# Altium integrated library TI Data Converters Digital to Analog Converter.IntLib: 1533 symbols (part 36 of 99)
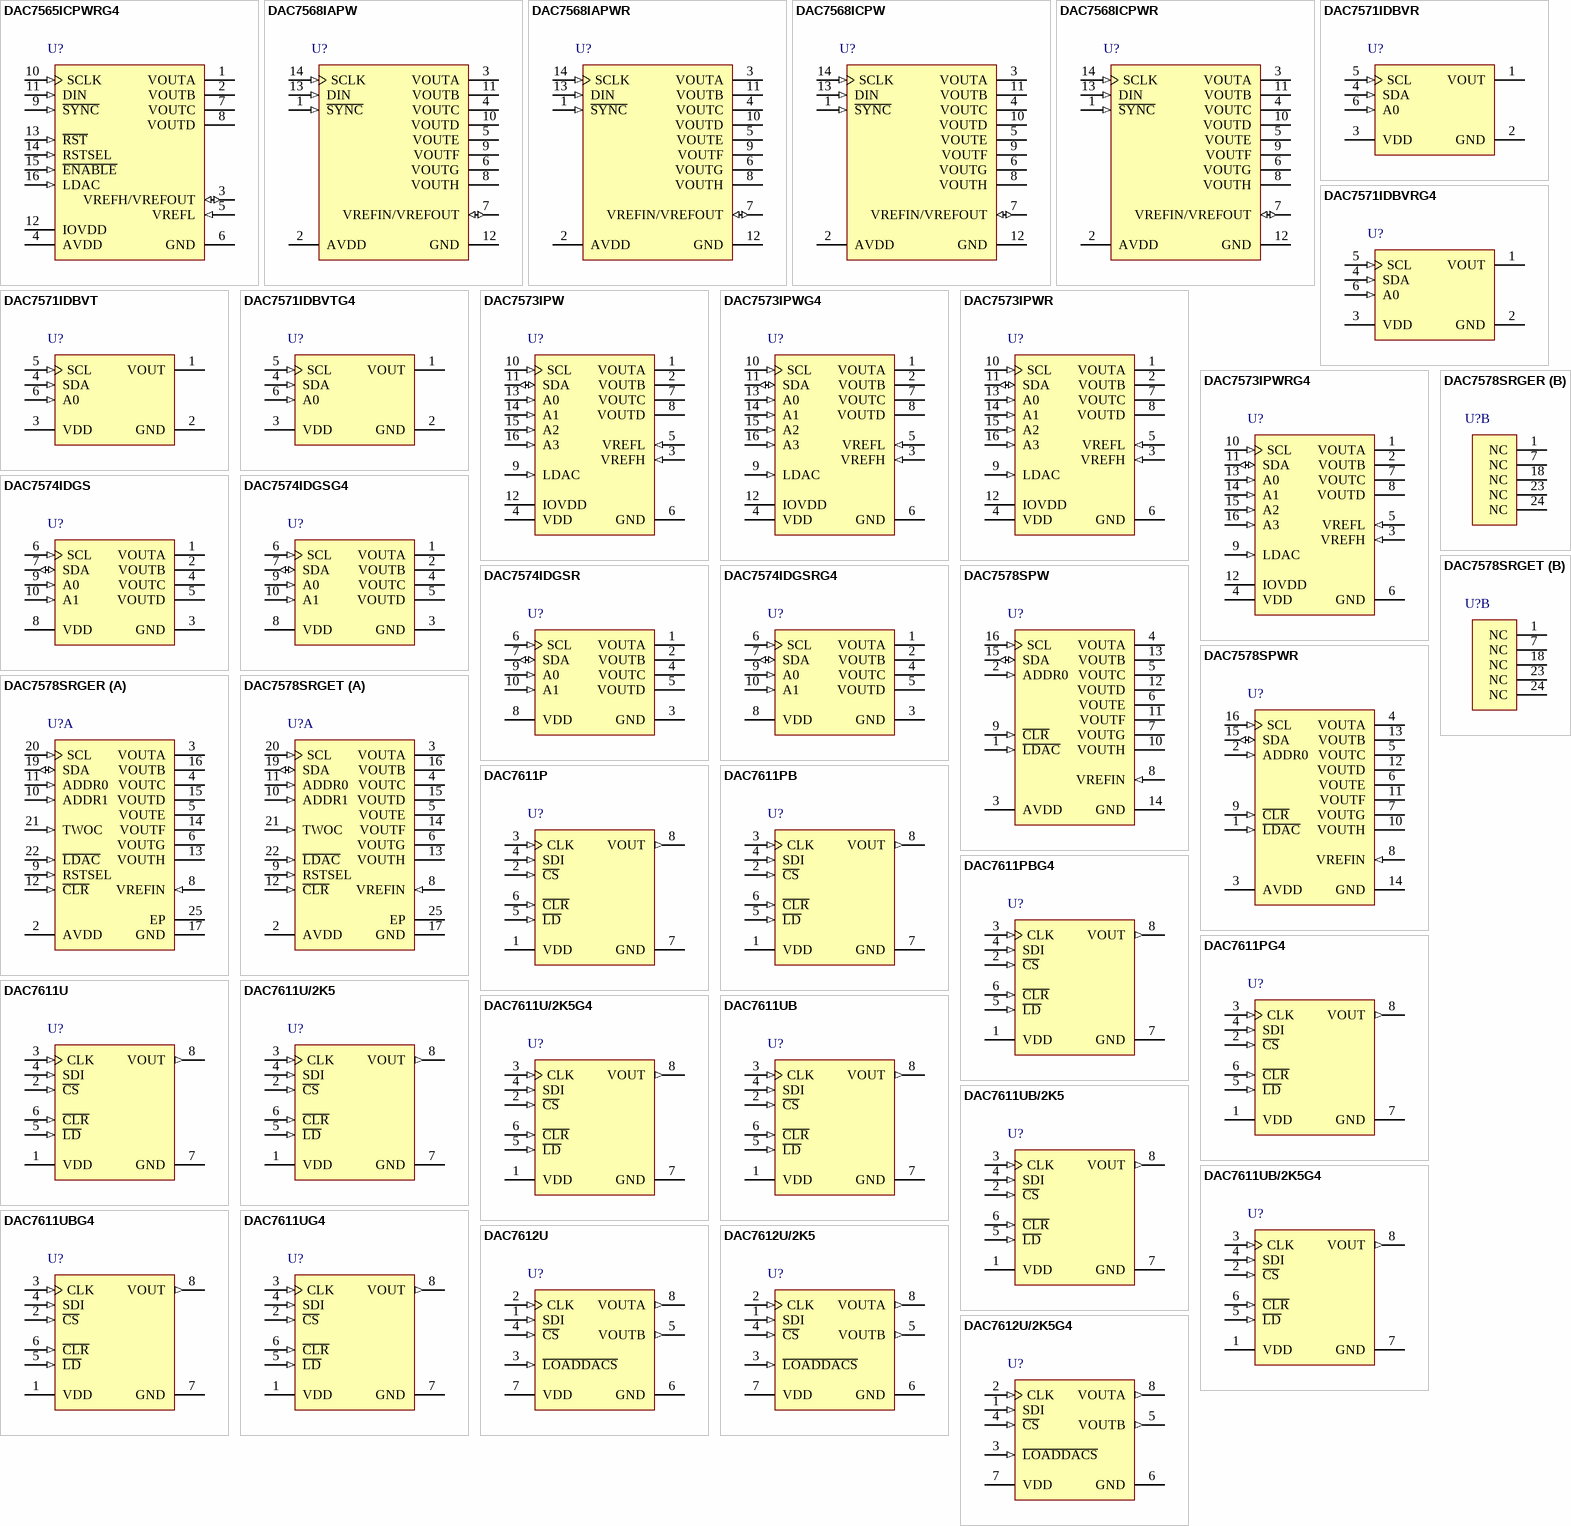
[diagram p108: symbols DAC7565ICPWRG4 to DAC7612U/2K5G4]

## DAC7612U/2K5
designator U?
Dual, 12-Bit Serial Input DAC, -40 to 85 degC, 8-pin SOIC (D8), Green (RoHS & no Sb/Br); Manufacturer: Texas Instruments; PartNumber: DAC7612U/2K5; DAC Channels: 2; DNL(Max)(+/-LSB): 1; Interface: Serial SPI; Power Consumption(Typ)(mW): 3.5; Resolution(Bits): 12; Settling Time(us): 7; SubFamily: Precision DAC (=<10MSPS); DatasheetVersion: SBAS106; PackageVersion: 4040047-3/M, 06/2011; PackageReference: D8; PackageDescription: 8-Pin Plastic Small Outline, Body 4.9 x 3.9 mm, Pitch 1.27 mm; Supplier 1: Digi-Key; Supplier Part Number 1: 296-26049-2-ND; Supplier 2: Digi-Key; Supplier Part Number 2: 296-26049-1-ND; Supplier 3: Digi-Key; Supplier Part Number 3: 296-26049-6-ND; Supplier 4: Newark; Supplier Part Number 4: 74C9168; Supplier 5: Mouser; Supplier Part Number 5: 595-DAC7612U/2K5; Eco-Plan: Green (RoHS & no Sb/Br); INL(Max)(+/-LSB): 2; Mounting Technology: Surface Mount; Code_JEDEC: MS-012; ComponentLink1Description: Manufacturer URL; ComponentLink1URL: http://www.ti.com/; ComponentLink2Description: Datasheet; ComponentLink2URL: http://www.ti.com/general/docs/lit/getliterature.tsp?genericPartNumber=DAC7612&fileType=pdf; ComponentLink3Description: Package Specification; ComponentLink3URL: http://www.ti.com/litv/pdf/msoi002j
footprint TI-D8_N (SOIC, 8-Leads, Body 4.9x3.9mm, Pitch 1.27mm, IPC Medium Density)
footprint TI-D8_L (SOIC, 8-Leads, Body 4.9x3.9mm, Pitch 1.27mm, IPC High Density)
footprint TI-D8_M (SOIC, 8-Leads, Body 4.9x3.9mm, Pitch 1.27mm, IPC Low Density)
pins: 1 SDI (in) "Serial Data Input. Data is clocked into the internal serial register on the rising edge of CLK.", 2 CLK (in) "Synchronous Clock for the Serial Data Input.", 3 ~{LOADDACS} (in) "S Loads the internal DAC registers. All DAC registers are transparent latches and are transparent when L\O\A\D\D\A\C\S\ is LOW (regardless of the state of C\S\ or CLK).", 4 ~{CS} (in) "Chip Select. Active LOW", 5 VOUTB (out) "DAC B Output Voltage", 6 GND (power) "Ground", 7 VDD (power) "Positive Power Supply", 8 VOUTA (out) "DAC A Output Voltage"

## DAC7612U/2K5G4
designator U?
Dual, 12-Bit Serial Input DAC, -40 to 85 degC, 8-pin SOIC (D8), Green (RoHS & no Sb/Br); Manufacturer: Texas Instruments; PartNumber: DAC7612U/2K5G4; DAC Channels: 2; DNL(Max)(+/-LSB): 1; Interface: Serial SPI; Power Consumption(Typ)(mW): 3.5; Resolution(Bits): 12; Settling Time(us): 7; SubFamily: Precision DAC (=<10MSPS); DatasheetVersion: SBAS106; PackageVersion: 4040047-3/M, 06/2011; PackageReference: D8; PackageDescription: 8-Pin Plastic Small Outline, Body 4.9 x 3.9 mm, Pitch 1.27 mm; Supplier 1: Digi-Key; Supplier Part Number 1: DAC7612U/2K5G4-ND; Supplier 2: Mouser; Supplier Part Number 2: 595-DAC7612U/2K5G4; Eco-Plan: Green (RoHS & no Sb/Br); INL(Max)(+/-LSB): 2; Mounting Technology: Surface Mount; Code_JEDEC: MS-012; ComponentLink1Description: Manufacturer URL; ComponentLink1URL: http://www.ti.com/; ComponentLink2Description: Datasheet; ComponentLink2URL: http://www.ti.com/general/docs/lit/getliterature.tsp?genericPartNumber=DAC7612&fileType=pdf; ComponentLink3Description: Package Specification; ComponentLink3URL: http://www.ti.com/litv/pdf/msoi002j
footprint TI-D8_N (SOIC, 8-Leads, Body 4.9x3.9mm, Pitch 1.27mm, IPC Medium Density)
footprint TI-D8_L (SOIC, 8-Leads, Body 4.9x3.9mm, Pitch 1.27mm, IPC High Density)
footprint TI-D8_M (SOIC, 8-Leads, Body 4.9x3.9mm, Pitch 1.27mm, IPC Low Density)
pins: 1 SDI (in) "Serial Data Input. Data is clocked into the internal serial register on the rising edge of CLK.", 2 CLK (in) "Synchronous Clock for the Serial Data Input.", 3 ~{LOADDACS} (in) "S Loads the internal DAC registers. All DAC registers are transparent latches and are transparent when L\O\A\D\D\A\C\S\ is LOW (regardless of the state of C\S\ or CLK).", 4 ~{CS} (in) "Chip Select. Active LOW", 5 VOUTB (out) "DAC B Output Voltage", 6 GND (power) "Ground", 7 VDD (power) "Positive Power Supply", 8 VOUTA (out) "DAC A Output Voltage"

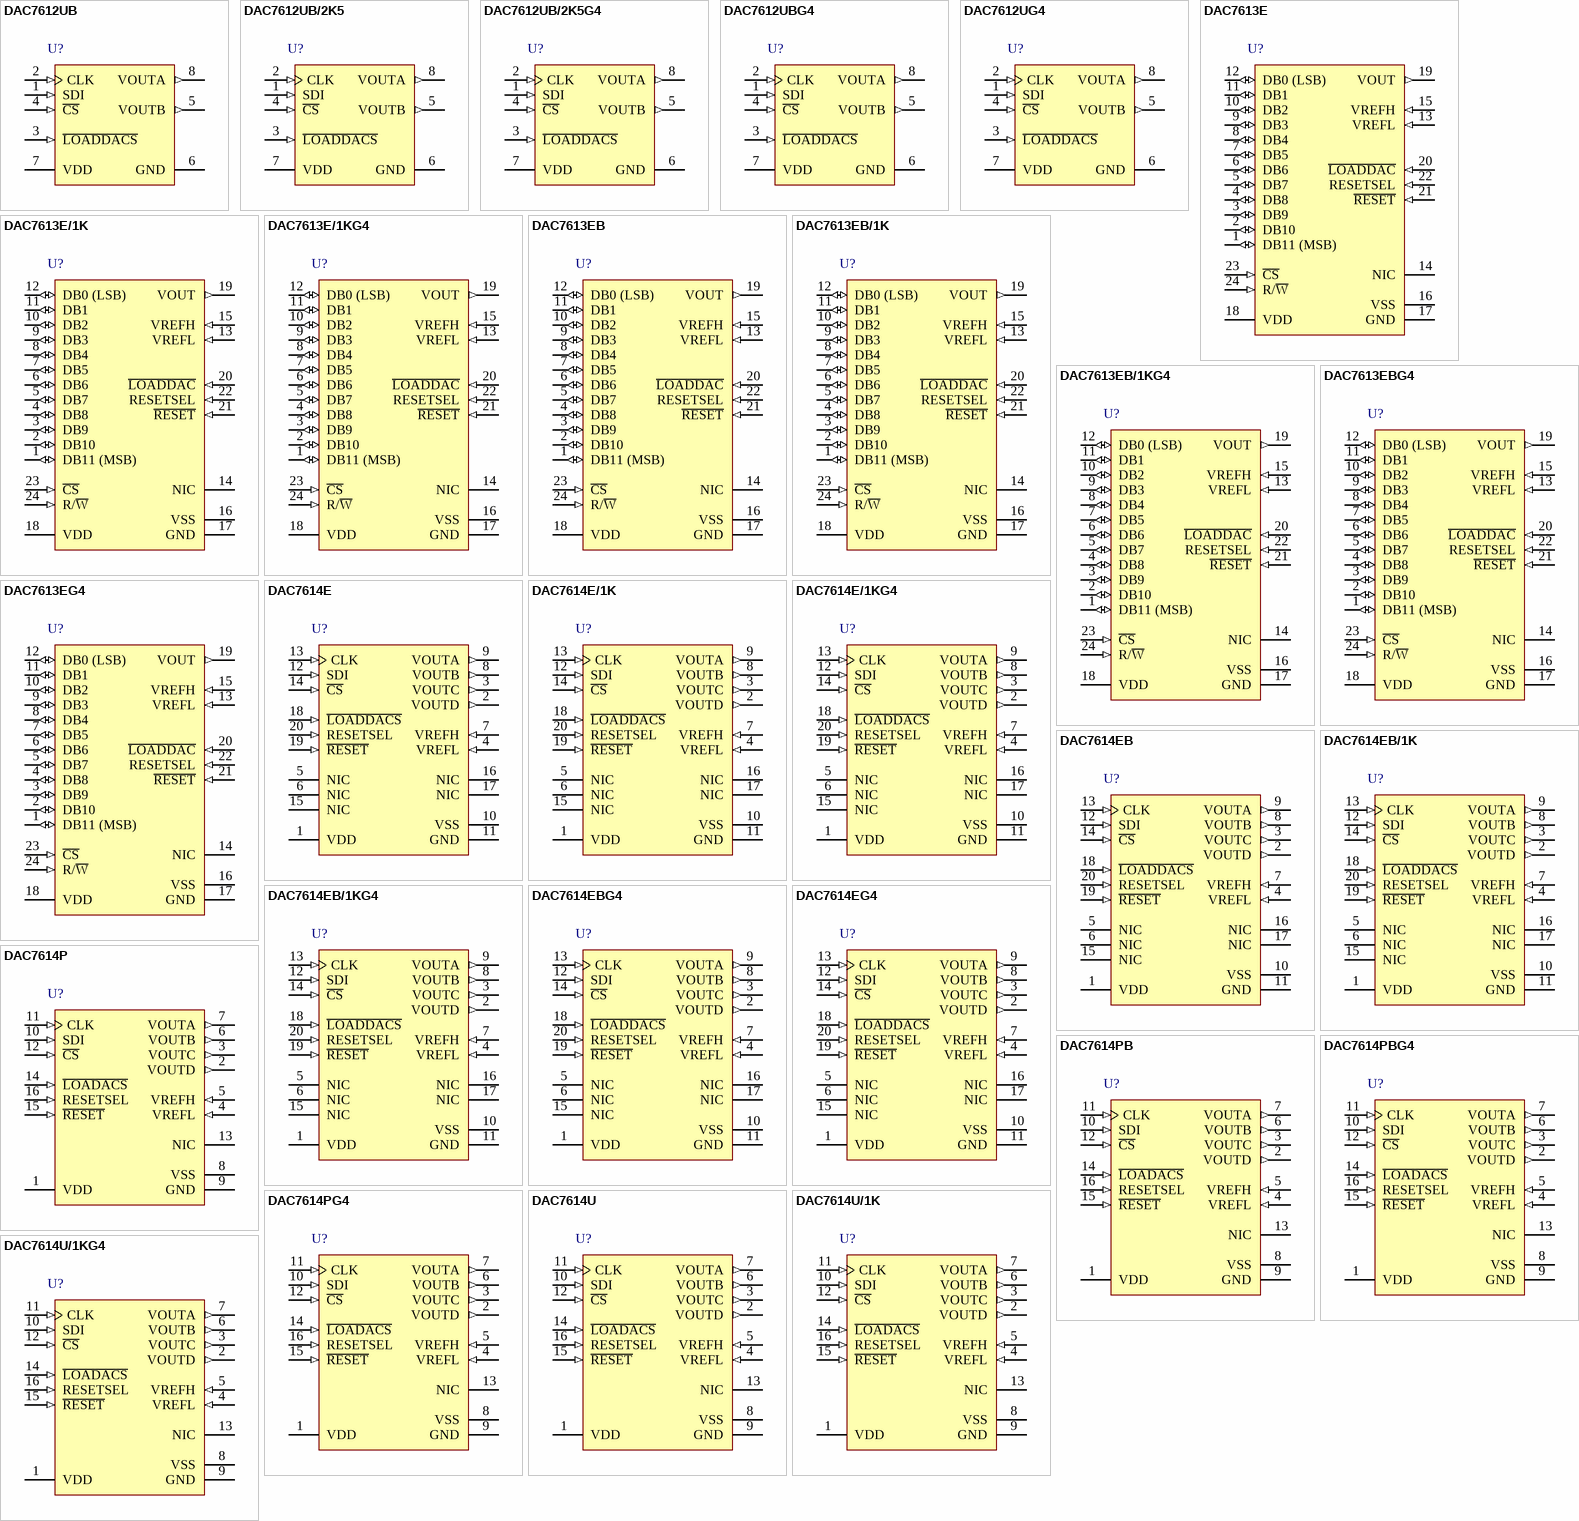
[diagram p26: symbols DAC7612UB to DAC7614U/1KG4]

## DAC7612UB
designator U?
Dual, 12-Bit Serial Input DAC, -40 to 85 degC, 8-pin SOIC (D8), Green (RoHS & no Sb/Br); Manufacturer: Texas Instruments; PartNumber: DAC7612UB; DAC Channels: 2; DNL(Max)(+/-LSB): 1; Interface: Serial SPI; Power Consumption(Typ)(mW): 3.5; Resolution(Bits): 12; Settling Time(us): 7; SubFamily: Precision DAC (=<10MSPS); DatasheetVersion: SBAS106; PackageVersion: 4040047-3/M, 06/2011; PackageReference: D8; PackageDescription: 8-Pin Plastic Small Outline, Body 4.9 x 3.9 mm, Pitch 1.27 mm; Supplier 1: Digi-Key; Supplier Part Number 1: DAC7612UB-ND; Supplier 2: Farnell; Supplier Part Number 2: 1460208; Supplier 3: Newark; Supplier Part Number 3: 10M5149; Supplier 4: Mouser; Supplier Part Number 4: 595-DAC7612UB; Eco-Plan: Green (RoHS & no Sb/Br); INL(Max)(+/-LSB): 1; Mounting Technology: Surface Mount; Code_JEDEC: MS-012; ComponentLink1Description: Manufacturer URL; ComponentLink1URL: http://www.ti.com/; ComponentLink2Description: Datasheet; ComponentLink2URL: http://www.ti.com/general/docs/lit/getliterature.tsp?genericPartNumber=DAC7612&fileType=pdf; ComponentLink3Description: Package Specification; ComponentLink3URL: http://www.ti.com/litv/pdf/msoi002j
footprint TI-D8_N (SOIC, 8-Leads, Body 4.9x3.9mm, Pitch 1.27mm, IPC Medium Density)
footprint TI-D8_L (SOIC, 8-Leads, Body 4.9x3.9mm, Pitch 1.27mm, IPC High Density)
footprint TI-D8_M (SOIC, 8-Leads, Body 4.9x3.9mm, Pitch 1.27mm, IPC Low Density)
pins: 1 SDI (in) "Serial Data Input. Data is clocked into the internal serial register on the rising edge of CLK.", 2 CLK (in) "Synchronous Clock for the Serial Data Input.", 3 ~{LOADDACS} (in) "S Loads the internal DAC registers. All DAC registers are transparent latches and are transparent when L\O\A\D\D\A\C\S\ is LOW (regardless of the state of C\S\ or CLK).", 4 ~{CS} (in) "Chip Select. Active LOW", 5 VOUTB (out) "DAC B Output Voltage", 6 GND (power) "Ground", 7 VDD (power) "Positive Power Supply", 8 VOUTA (out) "DAC A Output Voltage"

## DAC7612UB/2K5
designator U?
Dual, 12-Bit Serial Input DAC, -40 to 85 degC, 8-pin SOIC (D8), Green (RoHS & no Sb/Br); Manufacturer: Texas Instruments; PartNumber: DAC7612UB/2K5; DAC Channels: 2; DNL(Max)(+/-LSB): 1; Interface: Serial SPI; Power Consumption(Typ)(mW): 3.5; Resolution(Bits): 12; Settling Time(us): 7; SubFamily: Precision DAC (=<10MSPS); DatasheetVersion: SBAS106; PackageVersion: 4040047-3/M, 06/2011; PackageReference: D8; PackageDescription: 8-Pin Plastic Small Outline, Body 4.9 x 3.9 mm, Pitch 1.27 mm; Supplier 1: Digi-Key; Supplier Part Number 1: DAC7612UB/2K5-ND; Supplier 2: Newark; Supplier Part Number 2: 74C9169; Supplier 3: Mouser; Supplier Part Number 3: 595-DAC7612UB/2K5; Eco-Plan: Green (RoHS & no Sb/Br); INL(Max)(+/-LSB): 1; Mounting Technology: Surface Mount; Code_JEDEC: MS-012; ComponentLink1Description: Manufacturer URL; ComponentLink1URL: http://www.ti.com/; ComponentLink2Description: Datasheet; ComponentLink2URL: http://www.ti.com/general/docs/lit/getliterature.tsp?genericPartNumber=DAC7612&fileType=pdf; ComponentLink3Description: Package Specification; ComponentLink3URL: http://www.ti.com/litv/pdf/msoi002j
footprint TI-D8_N (SOIC, 8-Leads, Body 4.9x3.9mm, Pitch 1.27mm, IPC Medium Density)
footprint TI-D8_L (SOIC, 8-Leads, Body 4.9x3.9mm, Pitch 1.27mm, IPC High Density)
footprint TI-D8_M (SOIC, 8-Leads, Body 4.9x3.9mm, Pitch 1.27mm, IPC Low Density)
pins: 1 SDI (in) "Serial Data Input. Data is clocked into the internal serial register on the rising edge of CLK.", 2 CLK (in) "Synchronous Clock for the Serial Data Input.", 3 ~{LOADDACS} (in) "S Loads the internal DAC registers. All DAC registers are transparent latches and are transparent when L\O\A\D\D\A\C\S\ is LOW (regardless of the state of C\S\ or CLK).", 4 ~{CS} (in) "Chip Select. Active LOW", 5 VOUTB (out) "DAC B Output Voltage", 6 GND (power) "Ground", 7 VDD (power) "Positive Power Supply", 8 VOUTA (out) "DAC A Output Voltage"

## DAC7612UB/2K5G4
designator U?
Dual, 12-Bit Serial Input DAC, -40 to 85 degC, 8-pin SOIC (D8), Green (RoHS & no Sb/Br); Manufacturer: Texas Instruments; PartNumber: DAC7612UB/2K5G4; DAC Channels: 2; DNL(Max)(+/-LSB): 1; Interface: Serial SPI; Power Consumption(Typ)(mW): 3.5; Resolution(Bits): 12; Settling Time(us): 7; SubFamily: Precision DAC (=<10MSPS); DatasheetVersion: SBAS106; PackageVersion: 4040047-3/M, 06/2011; PackageReference: D8; PackageDescription: 8-Pin Plastic Small Outline, Body 4.9 x 3.9 mm, Pitch 1.27 mm; Supplier 1: Digi-Key; Supplier Part Number 1: DAC7612UB/2K5G4-ND; Supplier 2: Mouser; Supplier Part Number 2: 595-DAC7612UB/2K5G4; Eco-Plan: Green (RoHS & no Sb/Br); INL(Max)(+/-LSB): 1; Mounting Technology: Surface Mount; Code_JEDEC: MS-012; ComponentLink1Description: Manufacturer URL; ComponentLink1URL: http://www.ti.com/; ComponentLink2Description: Datasheet; ComponentLink2URL: http://www.ti.com/general/docs/lit/getliterature.tsp?genericPartNumber=DAC7612&fileType=pdf; ComponentLink3Description: Package Specification; ComponentLink3URL: http://www.ti.com/litv/pdf/msoi002j
footprint TI-D8_N (SOIC, 8-Leads, Body 4.9x3.9mm, Pitch 1.27mm, IPC Medium Density)
footprint TI-D8_L (SOIC, 8-Leads, Body 4.9x3.9mm, Pitch 1.27mm, IPC High Density)
footprint TI-D8_M (SOIC, 8-Leads, Body 4.9x3.9mm, Pitch 1.27mm, IPC Low Density)
pins: 1 SDI (in) "Serial Data Input. Data is clocked into the internal serial register on the rising edge of CLK.", 2 CLK (in) "Synchronous Clock for the Serial Data Input.", 3 ~{LOADDACS} (in) "S Loads the internal DAC registers. All DAC registers are transparent latches and are transparent when L\O\A\D\D\A\C\S\ is LOW (regardless of the state of C\S\ or CLK).", 4 ~{CS} (in) "Chip Select. Active LOW", 5 VOUTB (out) "DAC B Output Voltage", 6 GND (power) "Ground", 7 VDD (power) "Positive Power Supply", 8 VOUTA (out) "DAC A Output Voltage"

## DAC7612UBG4
designator U?
Dual, 12-Bit Serial Input DAC, -40 to 85 degC, 8-pin SOIC (D8), Green (RoHS & no Sb/Br); Manufacturer: Texas Instruments; PartNumber: DAC7612UBG4; DAC Channels: 2; DNL(Max)(+/-LSB): 1; Interface: Serial SPI; Power Consumption(Typ)(mW): 3.5; Resolution(Bits): 12; Settling Time(us): 7; SubFamily: Precision DAC (=<10MSPS); DatasheetVersion: SBAS106; PackageVersion: 4040047-3/M, 06/2011; PackageReference: D8; PackageDescription: 8-Pin Plastic Small Outline, Body 4.9 x 3.9 mm, Pitch 1.27 mm; Supplier 1: Digi-Key; Supplier Part Number 1: DAC7612UBG4-ND; Supplier 2: Newark; Supplier Part Number 2: 18M1980; Supplier 3: Mouser; Supplier Part Number 3: 595-DAC7612UBG4; Eco-Plan: Green (RoHS & no Sb/Br); INL(Max)(+/-LSB): 1; Mounting Technology: Surface Mount; Code_JEDEC: MS-012; ComponentLink1Description: Manufacturer URL; ComponentLink1URL: http://www.ti.com/; ComponentLink2Description: Datasheet; ComponentLink2URL: http://www.ti.com/general/docs/lit/getliterature.tsp?genericPartNumber=DAC7612&fileType=pdf; ComponentLink3Description: Package Specification; ComponentLink3URL: http://www.ti.com/litv/pdf/msoi002j
footprint TI-D8_N (SOIC, 8-Leads, Body 4.9x3.9mm, Pitch 1.27mm, IPC Medium Density)
footprint TI-D8_L (SOIC, 8-Leads, Body 4.9x3.9mm, Pitch 1.27mm, IPC High Density)
footprint TI-D8_M (SOIC, 8-Leads, Body 4.9x3.9mm, Pitch 1.27mm, IPC Low Density)
pins: 1 SDI (in) "Serial Data Input. Data is clocked into the internal serial register on the rising edge of CLK.", 2 CLK (in) "Synchronous Clock for the Serial Data Input.", 3 ~{LOADDACS} (in) "S Loads the internal DAC registers. All DAC registers are transparent latches and are transparent when L\O\A\D\D\A\C\S\ is LOW (regardless of the state of C\S\ or CLK).", 4 ~{CS} (in) "Chip Select. Active LOW", 5 VOUTB (out) "DAC B Output Voltage", 6 GND (power) "Ground", 7 VDD (power) "Positive Power Supply", 8 VOUTA (out) "DAC A Output Voltage"

## DAC7612UG4
designator U?
Dual, 12-Bit Serial Input DAC, -40 to 85 degC, 8-pin SOIC (D8), Green (RoHS & no Sb/Br); Manufacturer: Texas Instruments; PartNumber: DAC7612UG4; DAC Channels: 2; DNL(Max)(+/-LSB): 1; Interface: Serial SPI; Power Consumption(Typ)(mW): 3.5; Resolution(Bits): 12; Settling Time(us): 7; SubFamily: Precision DAC (=<10MSPS); DatasheetVersion: SBAS106; PackageVersion: 4040047-3/M, 06/2011; PackageReference: D8; PackageDescription: 8-Pin Plastic Small Outline, Body 4.9 x 3.9 mm, Pitch 1.27 mm; Supplier 1: Digi-Key; Supplier Part Number 1: DAC7612UG4-ND; Supplier 2: Mouser; Supplier Part Number 2: 595-DAC7612UG4; Eco-Plan: Green (RoHS & no Sb/Br); INL(Max)(+/-LSB): 2; Mounting Technology: Surface Mount; Code_JEDEC: MS-012; ComponentLink1Description: Manufacturer URL; ComponentLink1URL: http://www.ti.com/; ComponentLink2Description: Datasheet; ComponentLink2URL: http://www.ti.com/general/docs/lit/getliterature.tsp?genericPartNumber=DAC7612&fileType=pdf; ComponentLink3Description: Package Specification; ComponentLink3URL: http://www.ti.com/litv/pdf/msoi002j
footprint TI-D8_N (SOIC, 8-Leads, Body 4.9x3.9mm, Pitch 1.27mm, IPC Medium Density)
footprint TI-D8_L (SOIC, 8-Leads, Body 4.9x3.9mm, Pitch 1.27mm, IPC High Density)
footprint TI-D8_M (SOIC, 8-Leads, Body 4.9x3.9mm, Pitch 1.27mm, IPC Low Density)
pins: 1 SDI (in) "Serial Data Input. Data is clocked into the internal serial register on the rising edge of CLK.", 2 CLK (in) "Synchronous Clock for the Serial Data Input.", 3 ~{LOADDACS} (in) "S Loads the internal DAC registers. All DAC registers are transparent latches and are transparent when L\O\A\D\D\A\C\S\ is LOW (regardless of the state of C\S\ or CLK).", 4 ~{CS} (in) "Chip Select. Active LOW", 5 VOUTB (out) "DAC B Output Voltage", 6 GND (power) "Ground", 7 VDD (power) "Positive Power Supply", 8 VOUTA (out) "DAC A Output Voltage"

## DAC7613E
designator U?
12-Bit, Voltage Output DAC, -40 to 85 degC, 24-pin SOP (DB24), Green (RoHS & no Sb/Br); Manufacturer: Texas Instruments; PartNumber: DAC7613E; DAC Channels: 1; INL(Max)(+/-LSB): 2; Interface: Serial SPI; Power Consumption(Typ)(mW): 1.8; Resolution(Bits): 12; Settling Time(us): 10; SubFamily: Precision DAC (=<10MSPS); DatasheetVersion: SBAS105; PackageVersion: 4040065/E, 12/2001; PackageReference: DB24; PackageDescription: 24-Pin Plastic Small Outline, Body 8.2 x 5.3 mm, Pitch 0.65 mm; Supplier 1: Digi-Key; Supplier Part Number 1: DAC7613E-ND; Supplier 2: Farnell; Supplier Part Number 2: 1214349; Supplier 3: Newark; Supplier Part Number 3: 01M7295; Supplier 4: Newark; Supplier Part Number 4: 74C9170; Supplier 5: Mouser; Supplier Part Number 5: 595-DAC7613E; DNL(Max)(+/-LSB): 1; Eco-Plan: Green (RoHS & no Sb/Br); Mounting Technology: Surface Mount; Code_JEDEC: MO-150; ComponentLink1Description: Manufacturer URL; ComponentLink1URL: http://www.ti.com/; ComponentLink2Description: Datasheet; ComponentLink2URL: http://www.ti.com/general/docs/lit/getliterature.tsp?genericPartNumber=DAC7613&fileType=pdf; ComponentLink3Description: Package Specification; ComponentLink3URL: http://www.ti.com/lit/ml/msso002e/msso002e.pdf
footprint TI-DB24_N (SOP, 24-Leads, Body 8.2x5.3mm, Pitch 0.65mm, IPC Medium Density)
footprint TI-DB24_L (SOP, 24-Leads, Body 8.2x5.3mm, Pitch 0.65mm, IPC High Density)
footprint TI-DB24_M (SOP, 24-Leads, Body 8.2x5.3mm, Pitch 0.65mm, IPC Low Density)
pins: 1 DB11 (MSB) (io) "Data Bit 11, MSB", 2 DB10 (io) "Data Bit 10", 3 DB9 (io) "Data Bit 9", 4 DB8 (io) "Data Bit 8", 5 DB7 (io) "Data Bit 7", 6 DB6 (io) "Data Bit 6", 7 DB5 (io) "Data Bit 5", 8 DB4 (io) "Data Bit 4", 9 DB3 (io) "Data Bit 3", 10 DB2 (io) "Data Bit 2", 11 DB1 (io) "Data Bit 1", 12 DB0 (LSB) (io) "Data Bit 0, LSB", 13 VREFL (in) "Reference Input Voltage Low. Sets minimum output voltage for the DAC.", 14 NIC "Not Internally Connected", 15 VREFH (in) "Reference Input Voltage High. Sets maximum output voltage for the DAC.", 16 VSS (power) "Negative Analog Supply Voltage, 0V or -5V nominal.", 17 GND (power) "Ground", 18 VDD (power) "Positive Power Supply", 19 VOUT (out) "DAC Voltage Output", 20 ~{LOADDAC} (in) "The selected DAC register becomes transparent when L\O\A\D\D\A\C\ is LOW. It is in the latched state when L\O\A\D\D\A\C\ is HIGH.", 21 ~{RESET} (in) "Asynchronous Reset Input. Sets the DAC register to either zero-scale (000H) or mid-scale (800H) when LOW. RESETSEL determines which code is active.", 22 RESETSEL (in) "When LOW, a LOW on R\E\S\E\T\ will cause the DAC register to be set to code 000H. When RESETSEL is HIGH, a LOW on R\E\S\E\T\ will set the registers to code 800H.", 23 ~{CS} (in) "Chip Select. Active LOW.", 24 R/~{W} (in) "Enabled by C\S\. Controls data read and write from the input register."

## DAC7613E/1K
designator U?
12-Bit, Voltage Output DAC, -40 to 85 degC, 24-pin SOP (DB24), Green (RoHS & no Sb/Br); Manufacturer: Texas Instruments; PartNumber: DAC7613E/1K; DAC Channels: 1; INL(Max)(+/-LSB): 2; Interface: Serial SPI; Power Consumption(Typ)(mW): 1.8; Resolution(Bits): 12; Settling Time(us): 10; SubFamily: Precision DAC (=<10MSPS); DatasheetVersion: SBAS105; PackageVersion: 4040065/E, 12/2001; PackageReference: DB24; PackageDescription: 24-Pin Plastic Small Outline, Body 8.2 x 5.3 mm, Pitch 0.65 mm; Supplier 1: Digi-Key; Supplier Part Number 1: DAC7613E/1K-ND; Supplier 2: Newark; Supplier Part Number 2: 74C9171; Supplier 3: Mouser; Supplier Part Number 3: 595-DAC7613E/1K; DNL(Max)(+/-LSB): 1; Eco-Plan: Green (RoHS & no Sb/Br); Mounting Technology: Surface Mount; Code_JEDEC: MO-150; ComponentLink1Description: Manufacturer URL; ComponentLink1URL: http://www.ti.com/; ComponentLink2Description: Datasheet; ComponentLink2URL: http://www.ti.com/general/docs/lit/getliterature.tsp?genericPartNumber=DAC7613&fileType=pdf; ComponentLink3Description: Package Specification; ComponentLink3URL: http://www.ti.com/lit/ml/msso002e/msso002e.pdf
footprint TI-DB24_N (SOP, 24-Leads, Body 8.2x5.3mm, Pitch 0.65mm, IPC Medium Density)
footprint TI-DB24_L (SOP, 24-Leads, Body 8.2x5.3mm, Pitch 0.65mm, IPC High Density)
footprint TI-DB24_M (SOP, 24-Leads, Body 8.2x5.3mm, Pitch 0.65mm, IPC Low Density)
pins: 1 DB11 (MSB) (io) "Data Bit 11, MSB", 2 DB10 (io) "Data Bit 10", 3 DB9 (io) "Data Bit 9", 4 DB8 (io) "Data Bit 8", 5 DB7 (io) "Data Bit 7", 6 DB6 (io) "Data Bit 6", 7 DB5 (io) "Data Bit 5", 8 DB4 (io) "Data Bit 4", 9 DB3 (io) "Data Bit 3", 10 DB2 (io) "Data Bit 2", 11 DB1 (io) "Data Bit 1", 12 DB0 (LSB) (io) "Data Bit 0, LSB", 13 VREFL (in) "Reference Input Voltage Low. Sets minimum output voltage for the DAC.", 14 NIC "Not Internally Connected", 15 VREFH (in) "Reference Input Voltage High. Sets maximum output voltage for the DAC.", 16 VSS (power) "Negative Analog Supply Voltage, 0V or -5V nominal.", 17 GND (power) "Ground", 18 VDD (power) "Positive Power Supply", 19 VOUT (out) "DAC Voltage Output", 20 ~{LOADDAC} (in) "The selected DAC register becomes transparent when L\O\A\D\D\A\C\ is LOW. It is in the latched state when L\O\A\D\D\A\C\ is HIGH.", 21 ~{RESET} (in) "Asynchronous Reset Input. Sets the DAC register to either zero-scale (000H) or mid-scale (800H) when LOW. RESETSEL determines which code is active.", 22 RESETSEL (in) "When LOW, a LOW on R\E\S\E\T\ will cause the DAC register to be set to code 000H. When RESETSEL is HIGH, a LOW on R\E\S\E\T\ will set the registers to code 800H.", 23 ~{CS} (in) "Chip Select. Active LOW.", 24 R/~{W} (in) "Enabled by C\S\. Controls data read and write from the input register."

## DAC7613E/1KG4
designator U?
12-Bit, Voltage Output DAC, -40 to 85 degC, 24-pin SOP (DB24), Green (RoHS & no Sb/Br); Manufacturer: Texas Instruments; PartNumber: DAC7613E/1KG4; DAC Channels: 1; INL(Max)(+/-LSB): 2; Interface: Serial SPI; Power Consumption(Typ)(mW): 1.8; Resolution(Bits): 12; Settling Time(us): 10; SubFamily: Precision DAC (=<10MSPS); DatasheetVersion: SBAS105; PackageVersion: 4040065/E, 12/2001; PackageReference: DB24; PackageDescription: 24-Pin Plastic Small Outline, Body 8.2 x 5.3 mm, Pitch 0.65 mm; Supplier 1: Digi-Key; Supplier Part Number 1: DAC7613E/1KG4-ND; Supplier 2: Mouser; Supplier Part Number 2: 595-DAC7613E/1KG4; DNL(Max)(+/-LSB): 1; Eco-Plan: Green (RoHS & no Sb/Br); Mounting Technology: Surface Mount; Code_JEDEC: MO-150; ComponentLink1Description: Manufacturer URL; ComponentLink1URL: http://www.ti.com/; ComponentLink2Description: Datasheet; ComponentLink2URL: http://www.ti.com/general/docs/lit/getliterature.tsp?genericPartNumber=DAC7613&fileType=pdf; ComponentLink3Description: Package Specification; ComponentLink3URL: http://www.ti.com/lit/ml/msso002e/msso002e.pdf
footprint TI-DB24_N (SOP, 24-Leads, Body 8.2x5.3mm, Pitch 0.65mm, IPC Medium Density)
footprint TI-DB24_L (SOP, 24-Leads, Body 8.2x5.3mm, Pitch 0.65mm, IPC High Density)
footprint TI-DB24_M (SOP, 24-Leads, Body 8.2x5.3mm, Pitch 0.65mm, IPC Low Density)
pins: 1 DB11 (MSB) (io) "Data Bit 11, MSB", 2 DB10 (io) "Data Bit 10", 3 DB9 (io) "Data Bit 9", 4 DB8 (io) "Data Bit 8", 5 DB7 (io) "Data Bit 7", 6 DB6 (io) "Data Bit 6", 7 DB5 (io) "Data Bit 5", 8 DB4 (io) "Data Bit 4", 9 DB3 (io) "Data Bit 3", 10 DB2 (io) "Data Bit 2", 11 DB1 (io) "Data Bit 1", 12 DB0 (LSB) (io) "Data Bit 0, LSB", 13 VREFL (in) "Reference Input Voltage Low. Sets minimum output voltage for the DAC.", 14 NIC "Not Internally Connected", 15 VREFH (in) "Reference Input Voltage High. Sets maximum output voltage for the DAC.", 16 VSS (power) "Negative Analog Supply Voltage, 0V or -5V nominal.", 17 GND (power) "Ground", 18 VDD (power) "Positive Power Supply", 19 VOUT (out) "DAC Voltage Output", 20 ~{LOADDAC} (in) "The selected DAC register becomes transparent when L\O\A\D\D\A\C\ is LOW. It is in the latched state when L\O\A\D\D\A\C\ is HIGH.", 21 ~{RESET} (in) "Asynchronous Reset Input. Sets the DAC register to either zero-scale (000H) or mid-scale (800H) when LOW. RESETSEL determines which code is active.", 22 RESETSEL (in) "When LOW, a LOW on R\E\S\E\T\ will cause the DAC register to be set to code 000H. When RESETSEL is HIGH, a LOW on R\E\S\E\T\ will set the registers to code 800H.", 23 ~{CS} (in) "Chip Select. Active LOW.", 24 R/~{W} (in) "Enabled by C\S\. Controls data read and write from the input register."

## DAC7613EB
designator U?
12-Bit, Voltage Output DAC, -40 to 85 degC, 24-pin SOP (DB24), Green (RoHS & no Sb/Br); Manufacturer: Texas Instruments; PartNumber: DAC7613EB; DAC Channels: 1; Interface: Serial SPI; Power Consumption(Typ)(mW): 1.8; Resolution(Bits): 12; Settling Time(us): 10; SubFamily: Precision DAC (=<10MSPS); DatasheetVersion: SBAS105; PackageVersion: 4040065/E, 12/2001; PackageReference: DB24; PackageDescription: 24-Pin Plastic Small Outline, Body 8.2 x 5.3 mm, Pitch 0.65 mm; Supplier 1: Digi-Key; Supplier Part Number 1: DAC7613EB-ND; Supplier 2: Newark; Supplier Part Number 2: 74C9172; Supplier 3: Mouser; Supplier Part Number 3: 595-DAC7613EB; DNL(Max)(+/-LSB): 1; Eco-Plan: Green (RoHS & no Sb/Br); INL(Max)(+/-LSB): 1; Mounting Technology: Surface Mount; Code_JEDEC: MO-150; ComponentLink1Description: Manufacturer URL; ComponentLink1URL: http://www.ti.com/; ComponentLink2Description: Datasheet; ComponentLink2URL: http://www.ti.com/general/docs/lit/getliterature.tsp?genericPartNumber=DAC7613&fileType=pdf; ComponentLink3Description: Package Specification; ComponentLink3URL: http://www.ti.com/lit/ml/msso002e/msso002e.pdf
footprint TI-DB24_N (SOP, 24-Leads, Body 8.2x5.3mm, Pitch 0.65mm, IPC Medium Density)
footprint TI-DB24_L (SOP, 24-Leads, Body 8.2x5.3mm, Pitch 0.65mm, IPC High Density)
footprint TI-DB24_M (SOP, 24-Leads, Body 8.2x5.3mm, Pitch 0.65mm, IPC Low Density)
pins: 1 DB11 (MSB) (io) "Data Bit 11, MSB", 2 DB10 (io) "Data Bit 10", 3 DB9 (io) "Data Bit 9", 4 DB8 (io) "Data Bit 8", 5 DB7 (io) "Data Bit 7", 6 DB6 (io) "Data Bit 6", 7 DB5 (io) "Data Bit 5", 8 DB4 (io) "Data Bit 4", 9 DB3 (io) "Data Bit 3", 10 DB2 (io) "Data Bit 2", 11 DB1 (io) "Data Bit 1", 12 DB0 (LSB) (io) "Data Bit 0, LSB", 13 VREFL (in) "Reference Input Voltage Low. Sets minimum output voltage for the DAC.", 14 NIC "Not Internally Connected", 15 VREFH (in) "Reference Input Voltage High. Sets maximum output voltage for the DAC.", 16 VSS (power) "Negative Analog Supply Voltage, 0V or -5V nominal.", 17 GND (power) "Ground", 18 VDD (power) "Positive Power Supply", 19 VOUT (out) "DAC Voltage Output", 20 ~{LOADDAC} (in) "The selected DAC register becomes transparent when L\O\A\D\D\A\C\ is LOW. It is in the latched state when L\O\A\D\D\A\C\ is HIGH.", 21 ~{RESET} (in) "Asynchronous Reset Input. Sets the DAC register to either zero-scale (000H) or mid-scale (800H) when LOW. RESETSEL determines which code is active.", 22 RESETSEL (in) "When LOW, a LOW on R\E\S\E\T\ will cause the DAC register to be set to code 000H. When RESETSEL is HIGH, a LOW on R\E\S\E\T\ will set the registers to code 800H.", 23 ~{CS} (in) "Chip Select. Active LOW.", 24 R/~{W} (in) "Enabled by C\S\. Controls data read and write from the input register."

## DAC7613EB/1K
designator U?
12-Bit, Voltage Output DAC, -40 to 85 degC, 24-pin SOP (DB24), Green (RoHS & no Sb/Br); Manufacturer: Texas Instruments; PartNumber: DAC7613EB/1K; DAC Channels: 1; Interface: Serial SPI; Power Consumption(Typ)(mW): 1.8; Resolution(Bits): 12; Settling Time(us): 10; SubFamily: Precision DAC (=<10MSPS); DatasheetVersion: SBAS105; PackageVersion: 4040065/E, 12/2001; PackageReference: DB24; PackageDescription: 24-Pin Plastic Small Outline, Body 8.2 x 5.3 mm, Pitch 0.65 mm; Supplier 1: Digi-Key; Supplier Part Number 1: DAC7613EB/1K-ND; Supplier 2: Newark; Supplier Part Number 2: 74C9173; Supplier 3: Mouser; Supplier Part Number 3: 595-DAC7613EB/1K; DNL(Max)(+/-LSB): 1; Eco-Plan: Green (RoHS & no Sb/Br); INL(Max)(+/-LSB): 1; Mounting Technology: Surface Mount; Code_JEDEC: MO-150; ComponentLink1Description: Manufacturer URL; ComponentLink1URL: http://www.ti.com/; ComponentLink2Description: Datasheet; ComponentLink2URL: http://www.ti.com/general/docs/lit/getliterature.tsp?genericPartNumber=DAC7613&fileType=pdf; ComponentLink3Description: Package Specification; ComponentLink3URL: http://www.ti.com/lit/ml/msso002e/msso002e.pdf
footprint TI-DB24_N (SOP, 24-Leads, Body 8.2x5.3mm, Pitch 0.65mm, IPC Medium Density)
footprint TI-DB24_L (SOP, 24-Leads, Body 8.2x5.3mm, Pitch 0.65mm, IPC High Density)
footprint TI-DB24_M (SOP, 24-Leads, Body 8.2x5.3mm, Pitch 0.65mm, IPC Low Density)
pins: 1 DB11 (MSB) (io) "Data Bit 11, MSB", 2 DB10 (io) "Data Bit 10", 3 DB9 (io) "Data Bit 9", 4 DB8 (io) "Data Bit 8", 5 DB7 (io) "Data Bit 7", 6 DB6 (io) "Data Bit 6", 7 DB5 (io) "Data Bit 5", 8 DB4 (io) "Data Bit 4", 9 DB3 (io) "Data Bit 3", 10 DB2 (io) "Data Bit 2", 11 DB1 (io) "Data Bit 1", 12 DB0 (LSB) (io) "Data Bit 0, LSB", 13 VREFL (in) "Reference Input Voltage Low. Sets minimum output voltage for the DAC.", 14 NIC "Not Internally Connected", 15 VREFH (in) "Reference Input Voltage High. Sets maximum output voltage for the DAC.", 16 VSS (power) "Negative Analog Supply Voltage, 0V or -5V nominal.", 17 GND (power) "Ground", 18 VDD (power) "Positive Power Supply", 19 VOUT (out) "DAC Voltage Output", 20 ~{LOADDAC} (in) "The selected DAC register becomes transparent when L\O\A\D\D\A\C\ is LOW. It is in the latched state when L\O\A\D\D\A\C\ is HIGH.", 21 ~{RESET} (in) "Asynchronous Reset Input. Sets the DAC register to either zero-scale (000H) or mid-scale (800H) when LOW. RESETSEL determines which code is active.", 22 RESETSEL (in) "When LOW, a LOW on R\E\S\E\T\ will cause the DAC register to be set to code 000H. When RESETSEL is HIGH, a LOW on R\E\S\E\T\ will set the registers to code 800H.", 23 ~{CS} (in) "Chip Select. Active LOW.", 24 R/~{W} (in) "Enabled by C\S\. Controls data read and write from the input register."

## DAC7613EB/1KG4
designator U?
12-Bit, Voltage Output DAC, -40 to 85 degC, 24-pin SOP (DB24), Green (RoHS & no Sb/Br); Manufacturer: Texas Instruments; PartNumber: DAC7613EB/1KG4; DAC Channels: 1; Interface: Serial SPI; Power Consumption(Typ)(mW): 1.8; Resolution(Bits): 12; Settling Time(us): 10; SubFamily: Precision DAC (=<10MSPS); DatasheetVersion: SBAS105; PackageVersion: 4040065/E, 12/2001; PackageReference: DB24; PackageDescription: 24-Pin Plastic Small Outline, Body 8.2 x 5.3 mm, Pitch 0.65 mm; Supplier 1: Digi-Key; Supplier Part Number 1: DAC7613EB/1KG4-ND; Supplier 2: Newark; Supplier Part Number 2: 99K1830; Supplier 3: Mouser; Supplier Part Number 3: 595-DAC7613EB/1KG4; DNL(Max)(+/-LSB): 1; Eco-Plan: Green (RoHS & no Sb/Br); INL(Max)(+/-LSB): 1; Mounting Technology: Surface Mount; Code_JEDEC: MO-150; ComponentLink1Description: Manufacturer URL; ComponentLink1URL: http://www.ti.com/; ComponentLink2Description: Datasheet; ComponentLink2URL: http://www.ti.com/general/docs/lit/getliterature.tsp?genericPartNumber=DAC7613&fileType=pdf; ComponentLink3Description: Package Specification; ComponentLink3URL: http://www.ti.com/lit/ml/msso002e/msso002e.pdf
footprint TI-DB24_N (SOP, 24-Leads, Body 8.2x5.3mm, Pitch 0.65mm, IPC Medium Density)
footprint TI-DB24_L (SOP, 24-Leads, Body 8.2x5.3mm, Pitch 0.65mm, IPC High Density)
footprint TI-DB24_M (SOP, 24-Leads, Body 8.2x5.3mm, Pitch 0.65mm, IPC Low Density)
pins: 1 DB11 (MSB) (io) "Data Bit 11, MSB", 2 DB10 (io) "Data Bit 10", 3 DB9 (io) "Data Bit 9", 4 DB8 (io) "Data Bit 8", 5 DB7 (io) "Data Bit 7", 6 DB6 (io) "Data Bit 6", 7 DB5 (io) "Data Bit 5", 8 DB4 (io) "Data Bit 4", 9 DB3 (io) "Data Bit 3", 10 DB2 (io) "Data Bit 2", 11 DB1 (io) "Data Bit 1", 12 DB0 (LSB) (io) "Data Bit 0, LSB", 13 VREFL (in) "Reference Input Voltage Low. Sets minimum output voltage for the DAC.", 14 NIC "Not Internally Connected", 15 VREFH (in) "Reference Input Voltage High. Sets maximum output voltage for the DAC.", 16 VSS (power) "Negative Analog Supply Voltage, 0V or -5V nominal.", 17 GND (power) "Ground", 18 VDD (power) "Positive Power Supply", 19 VOUT (out) "DAC Voltage Output", 20 ~{LOADDAC} (in) "The selected DAC register becomes transparent when L\O\A\D\D\A\C\ is LOW. It is in the latched state when L\O\A\D\D\A\C\ is HIGH.", 21 ~{RESET} (in) "Asynchronous Reset Input. Sets the DAC register to either zero-scale (000H) or mid-scale (800H) when LOW. RESETSEL determines which code is active.", 22 RESETSEL (in) "When LOW, a LOW on R\E\S\E\T\ will cause the DAC register to be set to code 000H. When RESETSEL is HIGH, a LOW on R\E\S\E\T\ will set the registers to code 800H.", 23 ~{CS} (in) "Chip Select. Active LOW.", 24 R/~{W} (in) "Enabled by C\S\. Controls data read and write from the input register."

## DAC7613EBG4
designator U?
12-Bit, Voltage Output DAC, -40 to 85 degC, 24-pin SOP (DB24), Green (RoHS & no Sb/Br); Manufacturer: Texas Instruments; PartNumber: DAC7613EBG4; DAC Channels: 1; Interface: Serial SPI; Power Consumption(Typ)(mW): 1.8; Resolution(Bits): 12; Settling Time(us): 10; SubFamily: Precision DAC (=<10MSPS); DatasheetVersion: SBAS105; PackageVersion: 4040065/E, 12/2001; PackageReference: DB24; PackageDescription: 24-Pin Plastic Small Outline, Body 8.2 x 5.3 mm, Pitch 0.65 mm; Supplier 1: Digi-Key; Supplier Part Number 1: DAC7613EBG4-ND; Supplier 2: Mouser; Supplier Part Number 2: 595-DAC7613EBG4; DNL(Max)(+/-LSB): 1; Eco-Plan: Green (RoHS & no Sb/Br); INL(Max)(+/-LSB): 1; Mounting Technology: Surface Mount; Code_JEDEC: MO-150; ComponentLink1Description: Manufacturer URL; ComponentLink1URL: http://www.ti.com/; ComponentLink2Description: Datasheet; ComponentLink2URL: http://www.ti.com/general/docs/lit/getliterature.tsp?genericPartNumber=DAC7613&fileType=pdf; ComponentLink3Description: Package Specification; ComponentLink3URL: http://www.ti.com/lit/ml/msso002e/msso002e.pdf
footprint TI-DB24_N (SOP, 24-Leads, Body 8.2x5.3mm, Pitch 0.65mm, IPC Medium Density)
footprint TI-DB24_L (SOP, 24-Leads, Body 8.2x5.3mm, Pitch 0.65mm, IPC High Density)
footprint TI-DB24_M (SOP, 24-Leads, Body 8.2x5.3mm, Pitch 0.65mm, IPC Low Density)
pins: 1 DB11 (MSB) (io) "Data Bit 11, MSB", 2 DB10 (io) "Data Bit 10", 3 DB9 (io) "Data Bit 9", 4 DB8 (io) "Data Bit 8", 5 DB7 (io) "Data Bit 7", 6 DB6 (io) "Data Bit 6", 7 DB5 (io) "Data Bit 5", 8 DB4 (io) "Data Bit 4", 9 DB3 (io) "Data Bit 3", 10 DB2 (io) "Data Bit 2", 11 DB1 (io) "Data Bit 1", 12 DB0 (LSB) (io) "Data Bit 0, LSB", 13 VREFL (in) "Reference Input Voltage Low. Sets minimum output voltage for the DAC.", 14 NIC "Not Internally Connected", 15 VREFH (in) "Reference Input Voltage High. Sets maximum output voltage for the DAC.", 16 VSS (power) "Negative Analog Supply Voltage, 0V or -5V nominal.", 17 GND (power) "Ground", 18 VDD (power) "Positive Power Supply", 19 VOUT (out) "DAC Voltage Output", 20 ~{LOADDAC} (in) "The selected DAC register becomes transparent when L\O\A\D\D\A\C\ is LOW. It is in the latched state when L\O\A\D\D\A\C\ is HIGH.", 21 ~{RESET} (in) "Asynchronous Reset Input. Sets the DAC register to either zero-scale (000H) or mid-scale (800H) when LOW. RESETSEL determines which code is active.", 22 RESETSEL (in) "When LOW, a LOW on R\E\S\E\T\ will cause the DAC register to be set to code 000H. When RESETSEL is HIGH, a LOW on R\E\S\E\T\ will set the registers to code 800H.", 23 ~{CS} (in) "Chip Select. Active LOW.", 24 R/~{W} (in) "Enabled by C\S\. Controls data read and write from the input register."

## DAC7613EG4
designator U?
12-Bit, Voltage Output DAC, -40 to 85 degC, 24-pin SOP (DB24), Green (RoHS & no Sb/Br); Manufacturer: Texas Instruments; PartNumber: DAC7613EG4; DAC Channels: 1; INL(Max)(+/-LSB): 2; Interface: Serial SPI; Power Consumption(Typ)(mW): 1.8; Resolution(Bits): 12; Settling Time(us): 10; SubFamily: Precision DAC (=<10MSPS); DatasheetVersion: SBAS105; PackageVersion: 4040065/E, 12/2001; PackageReference: DB24; PackageDescription: 24-Pin Plastic Small Outline, Body 8.2 x 5.3 mm, Pitch 0.65 mm; Supplier 1: Digi-Key; Supplier Part Number 1: DAC7613EG4-ND; Supplier 2: Mouser; Supplier Part Number 2: 595-DAC7613EG4; DNL(Max)(+/-LSB): 1; Eco-Plan: Green (RoHS & no Sb/Br); Mounting Technology: Surface Mount; Code_JEDEC: MO-150; ComponentLink1Description: Manufacturer URL; ComponentLink1URL: http://www.ti.com/; ComponentLink2Description: Datasheet; ComponentLink2URL: http://www.ti.com/general/docs/lit/getliterature.tsp?genericPartNumber=DAC7613&fileType=pdf; ComponentLink3Description: Package Specification; ComponentLink3URL: http://www.ti.com/lit/ml/msso002e/msso002e.pdf
footprint TI-DB24_N (SOP, 24-Leads, Body 8.2x5.3mm, Pitch 0.65mm, IPC Medium Density)
footprint TI-DB24_L (SOP, 24-Leads, Body 8.2x5.3mm, Pitch 0.65mm, IPC High Density)
footprint TI-DB24_M (SOP, 24-Leads, Body 8.2x5.3mm, Pitch 0.65mm, IPC Low Density)
pins: 1 DB11 (MSB) (io) "Data Bit 11, MSB", 2 DB10 (io) "Data Bit 10", 3 DB9 (io) "Data Bit 9", 4 DB8 (io) "Data Bit 8", 5 DB7 (io) "Data Bit 7", 6 DB6 (io) "Data Bit 6", 7 DB5 (io) "Data Bit 5", 8 DB4 (io) "Data Bit 4", 9 DB3 (io) "Data Bit 3", 10 DB2 (io) "Data Bit 2", 11 DB1 (io) "Data Bit 1", 12 DB0 (LSB) (io) "Data Bit 0, LSB", 13 VREFL (in) "Reference Input Voltage Low. Sets minimum output voltage for the DAC.", 14 NIC "Not Internally Connected", 15 VREFH (in) "Reference Input Voltage High. Sets maximum output voltage for the DAC.", 16 VSS (power) "Negative Analog Supply Voltage, 0V or -5V nominal.", 17 GND (power) "Ground", 18 VDD (power) "Positive Power Supply", 19 VOUT (out) "DAC Voltage Output", 20 ~{LOADDAC} (in) "The selected DAC register becomes transparent when L\O\A\D\D\A\C\ is LOW. It is in the latched state when L\O\A\D\D\A\C\ is HIGH.", 21 ~{RESET} (in) "Asynchronous Reset Input. Sets the DAC register to either zero-scale (000H) or mid-scale (800H) when LOW. RESETSEL determines which code is active.", 22 RESETSEL (in) "When LOW, a LOW on R\E\S\E\T\ will cause the DAC register to be set to code 000H. When RESETSEL is HIGH, a LOW on R\E\S\E\T\ will set the registers to code 800H.", 23 ~{CS} (in) "Chip Select. Active LOW.", 24 R/~{W} (in) "Enabled by C\S\. Controls data read and write from the input register."

## DAC7614E
designator U?
Quad, Serial Input, 12-Bit, Voltage Output DAC, -40 to 85 degC, 20-pin SOP (DB20), Green (RoHS & no Sb/Br); Manufacturer: Texas Instruments; PartNumber: DAC7614E; DAC Channels: 4; DNL(Max)(+/-LSB): 1; INL(Max)(+/-LSB): 2; Interface: Serial SPI; Power Consumption(Typ)(mW): 15; Resolution(Bits): 12; Settling Time(us): 10; SubFamily: Precision DAC (=<10MSPS); DatasheetVersion: SBAS092; PackageVersion: 4040065/E, 12/2001; PackageReference: DB20; PackageDescription: 20-Pin Plastic Small Outline, Body 5.3 x 7.2 mm, Pitch 0.65 mm; Supplier 1: Digi-Key; Supplier Part Number 1: DAC7614E-ND; Supplier 2: Newark; Supplier Part Number 2: 35C1630; Supplier 3: Mouser; Supplier Part Number 3: 595-DAC7614E; Eco-Plan: Green (RoHS & no Sb/Br); Mounting Technology: Surface Mount; Code_JEDEC: MO-150; ComponentLink1Description: Manufacturer URL; ComponentLink1URL: http://www.ti.com/; ComponentLink2Description: Datasheet; ComponentLink2URL: http://www.ti.com/general/docs/lit/getliterature.tsp?genericPartNumber=DAC7614&fileType=pdf; ComponentLink3Description: Package Specification; ComponentLink3URL: http://www.ti.com/lit/ml/msso002e/msso002e.pdf
footprint TI-DB20_N (SOP, 20-Leads, Body 7.2x5.3mm, Pitch 0.65mm, IPC Medium Density)
footprint TI-DB20_L (SOP, 20-Leads, Body 7.2x5.3mm, Pitch 0.65mm, IPC High Density)
footprint TI-DB20_M (SOP, 20-Leads, Body 7.2x5.3mm, Pitch 0.65mm, IPC Low Density)
pins: 1 VDD (power) "Positive Analog Supply Voltage, +5V nominal.", 2 VOUTD (out) "DAC D Voltage Output", 3 VOUTC (out) "DAC C Voltage Output", 4 VREFL (in) "Reference Input Voltage Low. Sets minimum output voltage for all DACs.", 5 NIC "Not Internally Connected.", 6 NIC "Not Internally Connected.", 7 VREFH (in) "Reference Input Voltage High. Sets maximum output voltage for all DACs.", 8 VOUTB (out) "DAC B Voltage Output", 9 VOUTA (out) "DAC A Voltage Output", 10 VSS (power) "Negative Analog Supply Voltage, 0V or -5V nominal.", 11 GND (power) "Ground", 12 SDI (in) "Serial Data Input", 13 CLK (in) "Serial Data Clock", 14 ~{CS} (in) "Chip Select Input", 15 NIC "Not Internally Connected.", 16 NIC "Not Internally Connected.", 17 NIC "Not Internally Connected.", 18 ~{LOADDACS} (in) "The selected DAC register becomes transparent when L\O\A\D\D\A\C\S\ is LOW. It is in the latched state when L\O\A\D\D\AC\S\ is HIGH.", 19 ~{RESET} (in) "Asynchronous Reset Input. Sets all DAC registers to either zero-scale (000H) or mid-scale (800H) when LOW. RESETSEL determines which code is active.", 20 RESETSEL (in) "When LOW, a LOW on R\E\S\E\T\ will cause all DAC registers to be set to code 000H. When RESETSEL is HIGH, a LOW on R\E\S\E\T\ will set the registers to code 800H."

## DAC7614E/1K
designator U?
Quad, Serial Input, 12-Bit, Voltage Output DAC, -40 to 85 degC, 20-pin SOP (DB20), Green (RoHS & no Sb/Br); Manufacturer: Texas Instruments; PartNumber: DAC7614E/1K; DAC Channels: 4; DNL(Max)(+/-LSB): 1; INL(Max)(+/-LSB): 2; Interface: Serial SPI; Power Consumption(Typ)(mW): 15; Resolution(Bits): 12; Settling Time(us): 10; SubFamily: Precision DAC (=<10MSPS); DatasheetVersion: SBAS092; PackageVersion: 4040065/E, 12/2001; PackageReference: DB20; PackageDescription: 20-Pin Plastic Small Outline, Body 5.3 x 7.2 mm, Pitch 0.65 mm; Supplier 1: Digi-Key; Supplier Part Number 1: DAC7614E/1K-ND; Supplier 2: Newark; Supplier Part Number 2: 74C9174; Supplier 3: Mouser; Supplier Part Number 3: 595-DAC7614E/1K; Eco-Plan: Green (RoHS & no Sb/Br); Mounting Technology: Surface Mount; Code_JEDEC: MO-150; ComponentLink1Description: Manufacturer URL; ComponentLink1URL: http://www.ti.com/; ComponentLink2Description: Datasheet; ComponentLink2URL: http://www.ti.com/general/docs/lit/getliterature.tsp?genericPartNumber=DAC7614&fileType=pdf; ComponentLink3Description: Package Specification; ComponentLink3URL: http://www.ti.com/lit/ml/msso002e/msso002e.pdf
footprint TI-DB20_N (SOP, 20-Leads, Body 7.2x5.3mm, Pitch 0.65mm, IPC Medium Density)
footprint TI-DB20_L (SOP, 20-Leads, Body 7.2x5.3mm, Pitch 0.65mm, IPC High Density)
footprint TI-DB20_M (SOP, 20-Leads, Body 7.2x5.3mm, Pitch 0.65mm, IPC Low Density)
pins: 1 VDD (power) "Positive Analog Supply Voltage, +5V nominal.", 2 VOUTD (out) "DAC D Voltage Output", 3 VOUTC (out) "DAC C Voltage Output", 4 VREFL (in) "Reference Input Voltage Low. Sets minimum output voltage for all DACs.", 5 NIC "Not Internally Connected.", 6 NIC "Not Internally Connected.", 7 VREFH (in) "Reference Input Voltage High. Sets maximum output voltage for all DACs.", 8 VOUTB (out) "DAC B Voltage Output", 9 VOUTA (out) "DAC A Voltage Output", 10 VSS (power) "Negative Analog Supply Voltage, 0V or -5V nominal.", 11 GND (power) "Ground", 12 SDI (in) "Serial Data Input", 13 CLK (in) "Serial Data Clock", 14 ~{CS} (in) "Chip Select Input", 15 NIC "Not Internally Connected.", 16 NIC "Not Internally Connected.", 17 NIC "Not Internally Connected.", 18 ~{LOADDACS} (in) "The selected DAC register becomes transparent when L\O\A\D\D\A\C\S\ is LOW. It is in the latched state when L\O\A\D\D\AC\S\ is HIGH.", 19 ~{RESET} (in) "Asynchronous Reset Input. Sets all DAC registers to either zero-scale (000H) or mid-scale (800H) when LOW. RESETSEL determines which code is active.", 20 RESETSEL (in) "When LOW, a LOW on R\E\S\E\T\ will cause all DAC registers to be set to code 000H. When RESETSEL is HIGH, a LOW on R\E\S\E\T\ will set the registers to code 800H."

## DAC7614E/1KG4
designator U?
Quad, Serial Input, 12-Bit, Voltage Output DAC, -40 to 85 degC, 20-pin SOP (DB20), Green (RoHS & no Sb/Br); Manufacturer: Texas Instruments; PartNumber: DAC7614E/1KG4; DAC Channels: 4; DNL(Max)(+/-LSB): 1; INL(Max)(+/-LSB): 2; Interface: Serial SPI; Power Consumption(Typ)(mW): 15; Resolution(Bits): 12; Settling Time(us): 10; SubFamily: Precision DAC (=<10MSPS); DatasheetVersion: SBAS092; PackageVersion: 4040065/E, 12/2001; PackageReference: DB20; PackageDescription: 20-Pin Plastic Small Outline, Body 5.3 x 7.2 mm, Pitch 0.65 mm; Supplier 1: Digi-Key; Supplier Part Number 1: DAC7614E/1KG4-ND; Supplier 2: Mouser; Supplier Part Number 2: 595-DAC7614E/1KG4; Eco-Plan: Green (RoHS & no Sb/Br); Mounting Technology: Surface Mount; Code_JEDEC: MO-150; ComponentLink1Description: Manufacturer URL; ComponentLink1URL: http://www.ti.com/; ComponentLink2Description: Datasheet; ComponentLink2URL: http://www.ti.com/general/docs/lit/getliterature.tsp?genericPartNumber=DAC7614&fileType=pdf; ComponentLink3Description: Package Specification; ComponentLink3URL: http://www.ti.com/lit/ml/msso002e/msso002e.pdf
footprint TI-DB20_N (SOP, 20-Leads, Body 7.2x5.3mm, Pitch 0.65mm, IPC Medium Density)
footprint TI-DB20_L (SOP, 20-Leads, Body 7.2x5.3mm, Pitch 0.65mm, IPC High Density)
footprint TI-DB20_M (SOP, 20-Leads, Body 7.2x5.3mm, Pitch 0.65mm, IPC Low Density)
pins: 1 VDD (power) "Positive Analog Supply Voltage, +5V nominal.", 2 VOUTD (out) "DAC D Voltage Output", 3 VOUTC (out) "DAC C Voltage Output", 4 VREFL (in) "Reference Input Voltage Low. Sets minimum output voltage for all DACs.", 5 NIC "Not Internally Connected.", 6 NIC "Not Internally Connected.", 7 VREFH (in) "Reference Input Voltage High. Sets maximum output voltage for all DACs.", 8 VOUTB (out) "DAC B Voltage Output", 9 VOUTA (out) "DAC A Voltage Output", 10 VSS (power) "Negative Analog Supply Voltage, 0V or -5V nominal.", 11 GND (power) "Ground", 12 SDI (in) "Serial Data Input", 13 CLK (in) "Serial Data Clock", 14 ~{CS} (in) "Chip Select Input", 15 NIC "Not Internally Connected.", 16 NIC "Not Internally Connected.", 17 NIC "Not Internally Connected.", 18 ~{LOADDACS} (in) "The selected DAC register becomes transparent when L\O\A\D\D\A\C\S\ is LOW. It is in the latched state when L\O\A\D\D\AC\S\ is HIGH.", 19 ~{RESET} (in) "Asynchronous Reset Input. Sets all DAC registers to either zero-scale (000H) or mid-scale (800H) when LOW. RESETSEL determines which code is active.", 20 RESETSEL (in) "When LOW, a LOW on R\E\S\E\T\ will cause all DAC registers to be set to code 000H. When RESETSEL is HIGH, a LOW on R\E\S\E\T\ will set the registers to code 800H."

## DAC7614EB
designator U?
Quad, Serial Input, 12-Bit, Voltage Output DAC, -40 to 85 degC, 20-pin SOP (DB20), Green (RoHS & no Sb/Br); Manufacturer: Texas Instruments; PartNumber: DAC7614EB; DAC Channels: 4; DNL(Max)(+/-LSB): 1; Interface: Serial SPI; Power Consumption(Typ)(mW): 15; Resolution(Bits): 12; Settling Time(us): 10; SubFamily: Precision DAC (=<10MSPS); DatasheetVersion: SBAS092; PackageVersion: 4040065/E, 12/2001; PackageReference: DB20; PackageDescription: 20-Pin Plastic Small Outline, Body 5.3 x 7.2 mm, Pitch 0.65 mm; Supplier 1: Digi-Key; Supplier Part Number 1: DAC7614EB-ND; Supplier 2: Farnell; Supplier Part Number 2: 1460209; Supplier 3: Newark; Supplier Part Number 3: 61M5735; Supplier 4: Newark; Supplier Part Number 4: 35C1631; Supplier 5: Mouser; Supplier Part Number 5: 595-DAC7614EB; Eco-Plan: Green (RoHS & no Sb/Br); INL(Max)(+/-LSB): 1; Mounting Technology: Surface Mount; Code_JEDEC: MO-150; ComponentLink1Description: Manufacturer URL; ComponentLink1URL: http://www.ti.com/; ComponentLink2Description: Datasheet; ComponentLink2URL: http://www.ti.com/general/docs/lit/getliterature.tsp?genericPartNumber=DAC7614&fileType=pdf; ComponentLink3Description: Package Specification; ComponentLink3URL: http://www.ti.com/lit/ml/msso002e/msso002e.pdf
footprint TI-DB20_N (SOP, 20-Leads, Body 7.2x5.3mm, Pitch 0.65mm, IPC Medium Density)
footprint TI-DB20_L (SOP, 20-Leads, Body 7.2x5.3mm, Pitch 0.65mm, IPC High Density)
footprint TI-DB20_M (SOP, 20-Leads, Body 7.2x5.3mm, Pitch 0.65mm, IPC Low Density)
pins: 1 VDD (power) "Positive Analog Supply Voltage, +5V nominal.", 2 VOUTD (out) "DAC D Voltage Output", 3 VOUTC (out) "DAC C Voltage Output", 4 VREFL (in) "Reference Input Voltage Low. Sets minimum output voltage for all DACs.", 5 NIC "Not Internally Connected.", 6 NIC "Not Internally Connected.", 7 VREFH (in) "Reference Input Voltage High. Sets maximum output voltage for all DACs.", 8 VOUTB (out) "DAC B Voltage Output", 9 VOUTA (out) "DAC A Voltage Output", 10 VSS (power) "Negative Analog Supply Voltage, 0V or -5V nominal.", 11 GND (power) "Ground", 12 SDI (in) "Serial Data Input", 13 CLK (in) "Serial Data Clock", 14 ~{CS} (in) "Chip Select Input", 15 NIC "Not Internally Connected.", 16 NIC "Not Internally Connected.", 17 NIC "Not Internally Connected.", 18 ~{LOADDACS} (in) "The selected DAC register becomes transparent when L\O\A\D\D\A\C\S\ is LOW. It is in the latched state when L\O\A\D\D\AC\S\ is HIGH.", 19 ~{RESET} (in) "Asynchronous Reset Input. Sets all DAC registers to either zero-scale (000H) or mid-scale (800H) when LOW. RESETSEL determines which code is active.", 20 RESETSEL (in) "When LOW, a LOW on R\E\S\E\T\ will cause all DAC registers to be set to code 000H. When RESETSEL is HIGH, a LOW on R\E\S\E\T\ will set the registers to code 800H."

## DAC7614EB/1K
designator U?
Quad, Serial Input, 12-Bit, Voltage Output DAC, -40 to 85 degC, 20-pin SOP (DB20), Green (RoHS & no Sb/Br); Manufacturer: Texas Instruments; PartNumber: DAC7614EB/1K; DAC Channels: 4; DNL(Max)(+/-LSB): 1; Interface: Serial SPI; Power Consumption(Typ)(mW): 15; Resolution(Bits): 12; Settling Time(us): 10; SubFamily: Precision DAC (=<10MSPS); DatasheetVersion: SBAS092; PackageVersion: 4040065/E, 12/2001; PackageReference: DB20; PackageDescription: 20-Pin Plastic Small Outline, Body 5.3 x 7.2 mm, Pitch 0.65 mm; Supplier 1: Digi-Key; Supplier Part Number 1: DAC7614EB/1K-ND; Supplier 2: Newark; Supplier Part Number 2: 74C9175; Supplier 3: Mouser; Supplier Part Number 3: 595-DAC7614EB/1K; Eco-Plan: Green (RoHS & no Sb/Br); INL(Max)(+/-LSB): 1; Mounting Technology: Surface Mount; Code_JEDEC: MO-150; ComponentLink1Description: Manufacturer URL; ComponentLink1URL: http://www.ti.com/; ComponentLink2Description: Datasheet; ComponentLink2URL: http://www.ti.com/general/docs/lit/getliterature.tsp?genericPartNumber=DAC7614&fileType=pdf; ComponentLink3Description: Package Specification; ComponentLink3URL: http://www.ti.com/lit/ml/msso002e/msso002e.pdf
footprint TI-DB20_N (SOP, 20-Leads, Body 7.2x5.3mm, Pitch 0.65mm, IPC Medium Density)
footprint TI-DB20_L (SOP, 20-Leads, Body 7.2x5.3mm, Pitch 0.65mm, IPC High Density)
footprint TI-DB20_M (SOP, 20-Leads, Body 7.2x5.3mm, Pitch 0.65mm, IPC Low Density)
pins: 1 VDD (power) "Positive Analog Supply Voltage, +5V nominal.", 2 VOUTD (out) "DAC D Voltage Output", 3 VOUTC (out) "DAC C Voltage Output", 4 VREFL (in) "Reference Input Voltage Low. Sets minimum output voltage for all DACs.", 5 NIC "Not Internally Connected.", 6 NIC "Not Internally Connected.", 7 VREFH (in) "Reference Input Voltage High. Sets maximum output voltage for all DACs.", 8 VOUTB (out) "DAC B Voltage Output", 9 VOUTA (out) "DAC A Voltage Output", 10 VSS (power) "Negative Analog Supply Voltage, 0V or -5V nominal.", 11 GND (power) "Ground", 12 SDI (in) "Serial Data Input", 13 CLK (in) "Serial Data Clock", 14 ~{CS} (in) "Chip Select Input", 15 NIC "Not Internally Connected.", 16 NIC "Not Internally Connected.", 17 NIC "Not Internally Connected.", 18 ~{LOADDACS} (in) "The selected DAC register becomes transparent when L\O\A\D\D\A\C\S\ is LOW. It is in the latched state when L\O\A\D\D\AC\S\ is HIGH.", 19 ~{RESET} (in) "Asynchronous Reset Input. Sets all DAC registers to either zero-scale (000H) or mid-scale (800H) when LOW. RESETSEL determines which code is active.", 20 RESETSEL (in) "When LOW, a LOW on R\E\S\E\T\ will cause all DAC registers to be set to code 000H. When RESETSEL is HIGH, a LOW on R\E\S\E\T\ will set the registers to code 800H."